# Altium footprint library capSliders.PcbLib: 2 footprints
Each footprint in its own frame and in the unit in brackets; x right, y up, seen from the top. Pads: shape width x height; smd on the part's side, far side on the other; paste and mask are expansions set on the pad; w line width, h text height; cw(c..) or ccw(c..) is an arc to the next point about the centre after c.
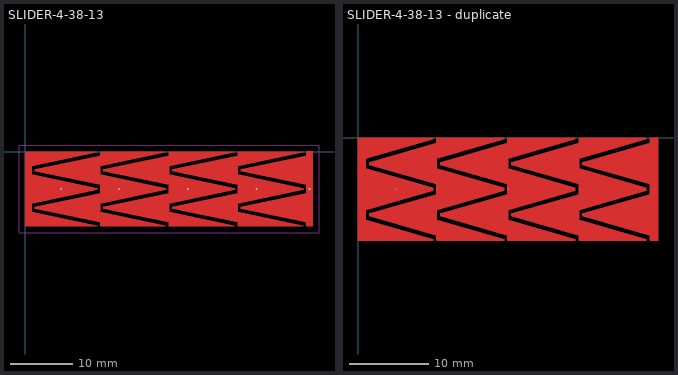
[diagram p0: the footprints below, top view; thin cyan lines are the x and y axes]

## SLIDER-4-38-13 [mm]
pads (5):
  round 0.3 smd paste-20 mask+0.102: 1(5.753,-6) 1(45.5,-6) 2(15,-6) 3(26,-6) 4(37,-6)
Top Layer:
  region: 33.995,-12 33.995,-11.35 23.495,-9.15 23.495,-8.85 33.995,-6.65 33.995,-5.35 23.495,-3.15 23.495,-2.85 33.995,-0.65 33.995,0 44.505,0 44.505,-0.15 34.005,-2.35 34.005,-3.65 44.505,-5.85 44.505,-6.15 34.005,-8.35 34.005,-9.65 44.505,-11.85 44.505,-12
  region: 22.995,-12 22.995,-11.35 12.495,-9.15 12.495,-8.85 22.995,-6.65 22.995,-5.35 12.495,-3.15 12.495,-2.85 22.995,-0.65 22.995,0 33.505,0 33.505,-0.15 23.005,-2.35 23.005,-3.65 33.505,-5.85 33.505,-6.15 23.005,-8.35 23.005,-9.65 33.505,-11.85 33.505,-12
  region: 1.495,-9.15 11.995,-11.35 11.995,-12 22.505,-12 22.505,-11.85 12.005,-9.65 12.005,-8.35 22.505,-6.15 22.505,-5.85 12.005,-3.65 12.005,-2.35 22.505,-0.15 22.505,0 11.995,0 11.995,-0.65 1.495,-2.85 1.495,-3.15 11.995,-5.35 11.995,-6.65 1.495,-8.85
  region: 1,-9.65 1,-8.35 1.005,-8.35 11.505,-6.15 11.505,-5.85 1.005,-3.65 1,-3.65 1,-2.35 1.005,-2.35 11.505,-0.15 11.505,0 0,0 0,-12 11.505,-12 11.505,-11.85 1.005,-9.65
  region: 34.495,-9.15 44.995,-11.35 45,-11.35 45,-12 46,-12 46,0 45,0 45,-0.65 44.995,-0.65 34.495,-2.85 34.495,-3.15 44.995,-5.35 45,-5.35 45,-6.65 44.995,-6.65 34.495,-8.85
Top Layer keep-out:
  lines w0.1: -1,-13 47,-13 47,1 -1,1 -1,-13

## SLIDER-4-38-13 - duplicate [mil]
pads (5):
  round 1 smd: 1(187.11,-255.91) 1(1476.38,-255.91)
  round 1 smd paste-20 mask-20: 2(393.7,-255.91) 3(748.03,-255.91) 4(1102.36,-255.91)
Top Layer:
  region: 1121.85,-389.76 1456.5,-486.22 1456.69,-486.22 1456.69,-511.81 1496.06,-511.81 1496.06,0 1456.69,0 1456.69,-25.59 1456.5,-25.59 1121.85,-122.05 1121.85,-133.86 1456.5,-230.32 1456.69,-230.32 1456.69,-281.5 1456.5,-281.5 1121.85,-377.95
  region: 1456.69,-511.81 1456.69,0 1496.06,0 1496.06,-511.81
  region: 39.37,-409.45 39.37,-358.27 39.57,-358.27 374.21,-261.81 374.21,-250 39.57,-153.54 39.37,-153.54 39.37,-102.36 39.57,-102.36 374.21,-5.91 374.21,0 0,0 0,-511.81 374.21,-511.81 374.21,-505.91 39.57,-409.45
  region: 393.5,-511.81 393.5,-486.22 58.86,-389.76 58.86,-377.95 393.5,-281.5 393.5,-230.32 58.86,-133.86 58.86,-122.05 393.5,-25.59 393.5,0 728.54,0 728.54,-5.91 393.9,-102.36 393.9,-153.54 728.54,-250 728.54,-261.81 393.9,-358.27 393.9,-409.45 728.54,-505.91 728.54,-511.81
  region: 747.83,-511.81 747.83,-486.22 413.19,-389.76 413.19,-377.95 747.83,-281.5 747.83,-230.32 413.19,-133.86 413.19,-122.05 747.83,-25.59 747.83,0 1082.87,0 1082.87,-5.91 748.23,-102.36 748.23,-153.54 1082.87,-250 1082.87,-261.81 748.23,-358.27 748.23,-409.45 1082.87,-505.91 1082.87,-511.81
  region: 1102.17,-511.81 1102.17,-486.22 767.52,-389.76 767.52,-377.95 1102.17,-281.5 1102.17,-230.32 767.52,-133.86 767.52,-122.05 1102.17,-25.59 1102.17,0 1437.2,0 1437.2,-5.91 1102.56,-102.36 1102.56,-153.54 1437.2,-250 1437.2,-261.81 1102.56,-358.27 1102.56,-409.45 1437.2,-505.91 1437.2,-511.81
  lines w0.04: 0,-511.81 0,0 374.21,0 374.21,-5.91 39.57,-102.36 39.37,-102.36 39.37,-153.54 39.57,-153.54 374.21,-250 374.21,-261.81 39.57,-358.27 39.37,-358.27 39.37,-409.45 39.57,-409.45 374.21,-505.91 374.21,-511.81 0,-511.81 ; 58.86,-389.76 58.86,-377.95 393.5,-281.5 393.5,-230.32 58.86,-133.86 58.86,-122.05 393.5,-25.59 393.5,0 728.54,0 728.54,-5.91 393.9,-102.36 393.9,-153.54 728.54,-250 728.54,-261.81 393.9,-358.27 393.9,-409.45 728.54,-505.91 728.54,-511.81 393.5,-511.81 393.5,-486.22 58.86,-389.76 ; 413.19,-389.76 413.19,-377.95 747.83,-281.5 747.83,-230.32 413.19,-133.86 413.19,-122.05 747.83,-25.59 747.83,0 1082.87,0 1082.87,-5.91 748.23,-102.36 748.23,-153.54 1082.87,-250 1082.87,-261.81 748.23,-358.27 748.23,-409.45 1082.87,-505.91 1082.87,-511.81 747.83,-511.81 747.83,-486.22 413.19,-389.76 ; 767.52,-389.76 767.52,-377.95 1102.17,-281.5 1102.17,-230.32 767.52,-133.86 767.52,-122.05 1102.17,-25.59 1102.17,0 1437.2,0 1437.2,-5.91 1102.56,-102.36 1102.56,-153.54 1437.2,-250 1437.2,-261.81 1102.56,-358.27 1102.56,-409.45 1437.2,-505.91 1437.2,-511.81 1102.17,-511.81 1102.17,-486.22 767.52,-389.76 ; 1121.85,-389.76 1121.85,-377.95 1456.5,-281.5 1456.69,-281.5 1456.69,-230.32 1456.5,-230.32 1121.85,-133.86 1121.85,-122.05 1456.5,-25.59 1456.69,-25.59 1456.69,0 1496.06,0 1496.06,-511.81 1456.69,-511.81 1456.69,-486.22 1456.5,-486.22 1121.85,-389.76